# Altium integrated library DHT11.IntLib: 1 symbol
Pins are listed as number, name and electrical type; pins without a type are passive.

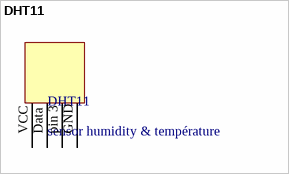
[diagram p0: symbol DHT11]

## DHT11
designator DHT11, comment sensor humidity & température
footprint DHT11 (humidity & temperature sensor)
pins: Data data, GND, pin 3 4, VCC vcc